# Altium schematic symbol library SCH - Interface - SD - TXS02612RTWR.SCHLIB: 1 symbol
Pins are listed as number, name and electrical type; pins without a type are passive.

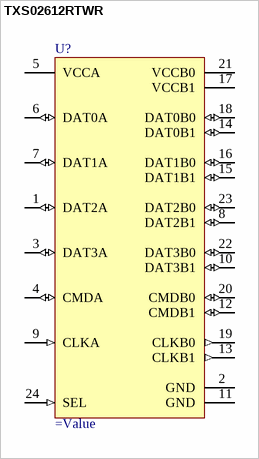
[diagram p0: symbol TXS02612RTWR]

## TXS02612RTWR
designator U?
TXS02612RTWR
pins: 1 DAT2A (io) "Data bit 2. Referenced to VCCA.", 2 GND (power) "Ground", 3 DAT3A (io) "Data bit 3. Referenced to VCCA.", 4 CMDA (io) "Command bit. Referenced to VCCA.", 5 VCCA (power) "A-port supply voltage. 1.1 V = VCCA = 3.6 V.", 6 DAT0A (io) "Data bit 0. Referenced to VCCA.", 7 DAT1A (io) "Data bit 1. Referenced to VCCA.", 8 DAT2B1 (io) "Data bit 2. Referenced to VCCB1.", 9 CLKA (in) "Clock input A. Referenced to VCCA.", 10 DAT3B1 (io) "Data bit 3. Referenced to VCCB1.", 11 GND (power) "Ground", 12 CMDB1 (io) "Command bit. Referenced to VCCB1.", 13 CLKB1 (out) "Clock output. Referenced to VCCB1.", 14 DAT0B1 (io) "Data bit 0. Referenced to VCCB1.", 15 DAT1B1 (io) "Data bit 1. Referenced to VCCB1.", 16 DAT1B0 (io) "Data bit 1. Referenced to VCCB0.", 17 VCCB1 (power) "B1-port supply voltage. 1.1 V = VCCB1 = 3.6 V.", 18 DAT0B0 (io) "Data bit 0. Referenced to VCCB0.", 19 CLKB0 (out) "Clock output. Referenced to VCCB0.", 20 CMDB0 (io) "Command bit. Referenced to VCCB0.", 21 VCCB0 (power) "B0-port supply voltage. 1.1 V = VCCB0 = 3.6 V.", 22 DAT3B0 (io) "Data bit 3. Referenced to VCCB0.", 23 DAT2B0 (io) "Data bit 2. Referenced to VCCB0.", 24 SEL (in) "Select pin to choose between B0 and B1. Referenced to VCCA."